# Altium integrated library Microchip PIC16 Part 1.IntLib: 1800 symbols (part 42 of 93)
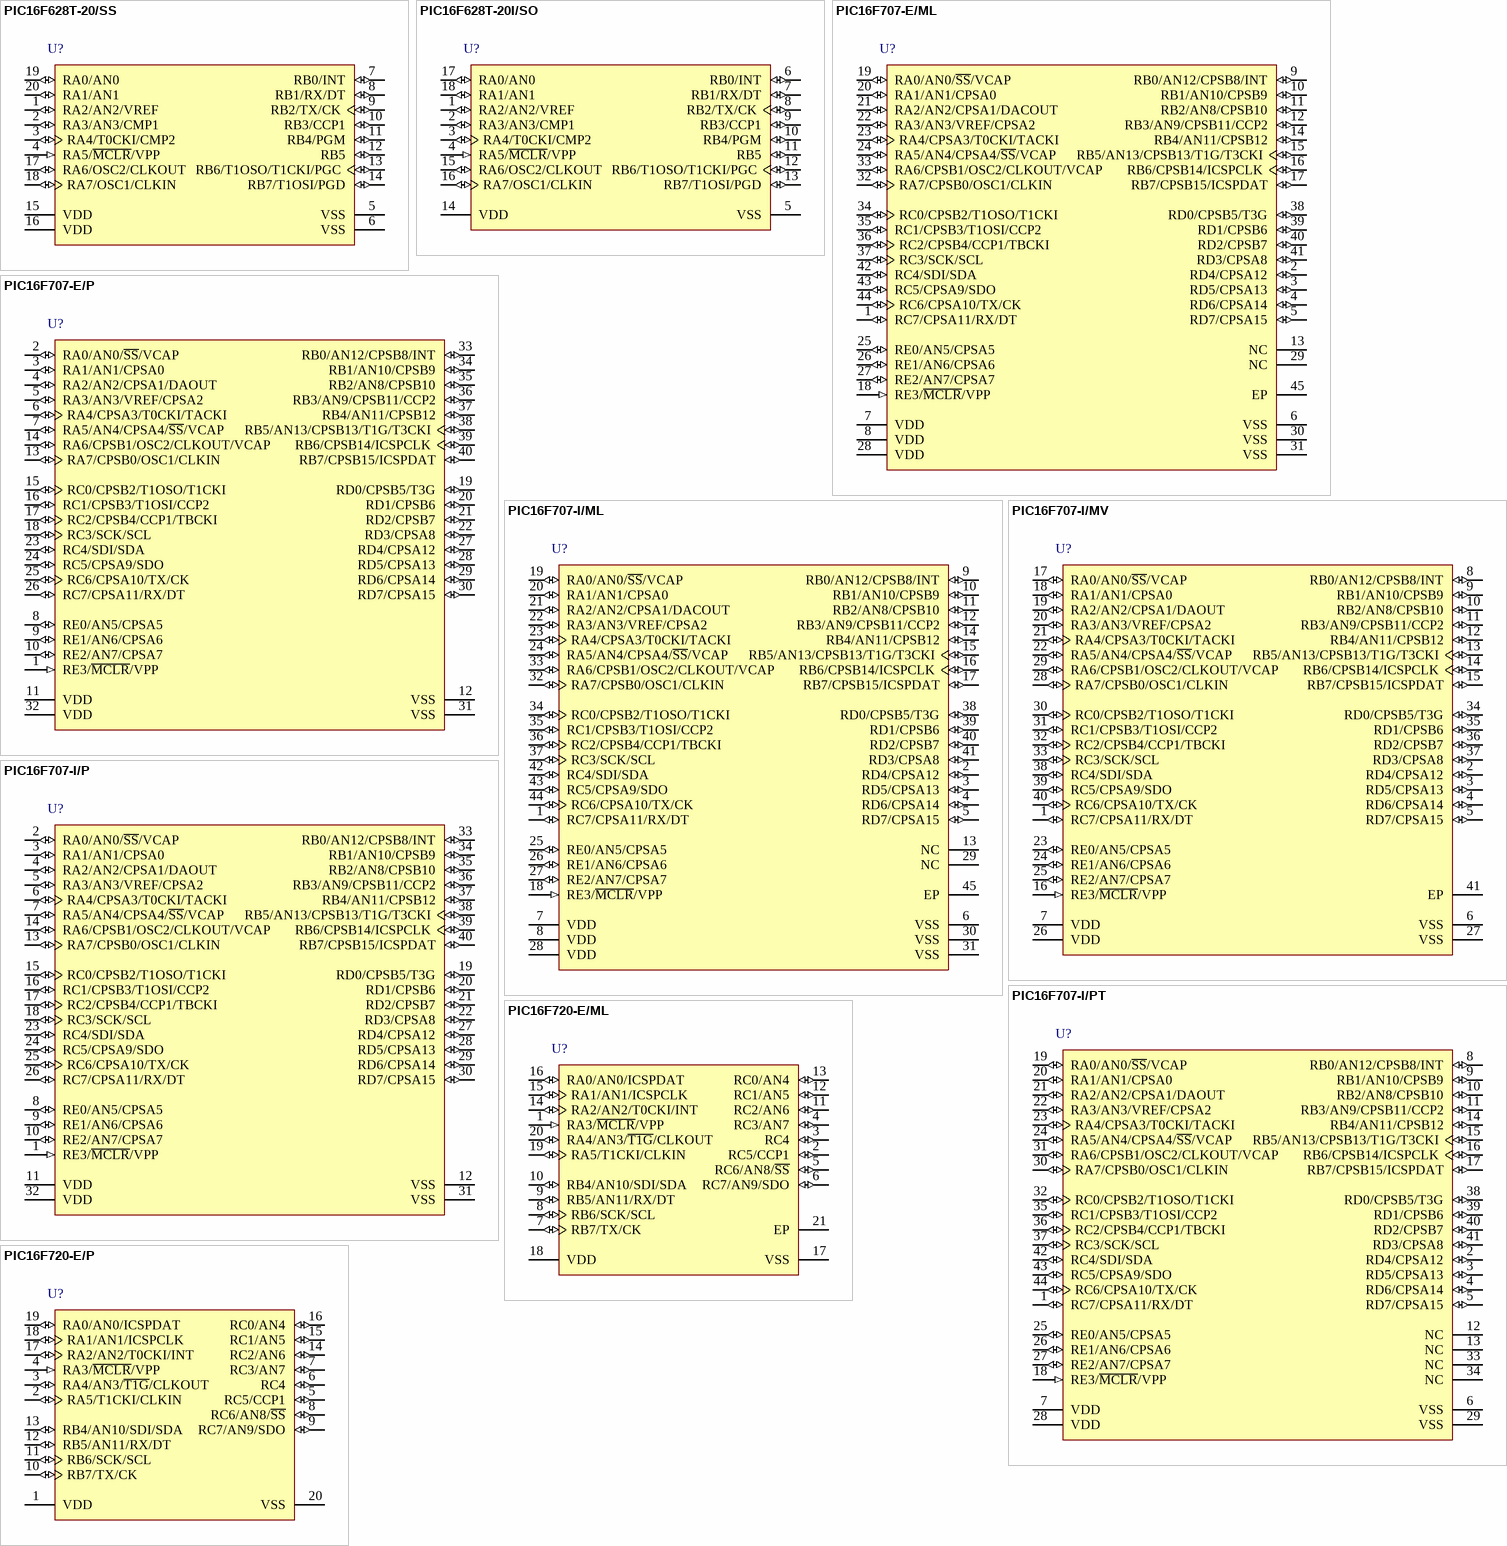
[diagram p141: symbols PIC16F628T-20/SS to PIC16F720-E/P]

## PIC16F707-E/P
designator U?
Flash Microcontroller with nanoWatt XLP and mTouch(TM) Technology, 20 MHz, 35 I/O, -40 to 125 degC, 40-pin PDIP (P40), Tube; Manufacturer: Microchip; PartNumber: PIC16F707-E/P; # of A/D Channels: 14; Digital Communication: 1 -A/E/USART, 1 -SSP(SPI/I2C); I/O Pins: 35; Internal Oscillator: 16 MHz, 500 kHz; Max. CPU Speed MHz: 20; Operation Voltage Range: 1.8V - 5.5V; Program Memory KWords: 8; RAM: 363; Timers: 4 - 8-bit, 2 - 16-bit; DatasheetVersion: Rev. B; PackageVersion: C04-016B, 04/2013; PackageReference: PDIP-P40; PackageDescription: 40-Lead Plastic Dual In-Line Package, Body 51.75 x 13.53 mm, Pitch 2.54 mm; Supplier 1: Digi-Key; Supplier Part Number 1: PIC16F707-E/P-ND; Supplier 2: Mouser; Supplier Part Number 2: 579-PIC16F707-E/P; Memory Type: Flash; Packing: TUBE; Program Memory KBytes: 14; RoHS: TRUE; Mounting Technology: Through Hole; ComponentLink1Description: Datasheet; ComponentLink1URL: http://ww1.microchip.com/downloads/en/DeviceDoc/41418B.pdf; ComponentLink2Description: Package Specification; ComponentLink2URL: http://www.microchip.com/stellent/groups/techpub_sg/documents/packagingspec/en012702.pdf; ComponentLink3Description: URL Link1; ComponentLink3URL: Product URL:http://www.microchip.com/datasheet/PIC16F707
footprint MCHP-PDIP-P40 (PDIP, 40-Leads, Body 51.75x13.53mm, Pitch 2.54mm)
pins: 1 RE3/~{MCLR}/VPP (in), 2 RA0/AN0/~{SS}/VCAP (io), 3 RA1/AN1/CPSA0 (io), 4 RA2/AN2/CPSA1/DAOUT (io), 5 RA3/AN3/VREF/CPSA2 (io), 6 RA4/CPSA3/T0CKI/TACKI (io), 7 RA5/AN4/CPSA4/~{SS}/VCAP (io), 8 RE0/AN5/CPSA5 (io), 9 RE1/AN6/CPSA6 (io), 10 RE2/AN7/CPSA7 (io), 11 VDD (power) "Positive supply.", 12 VSS (power) "Ground reference.", 13 RA7/CPSB0/OSC1/CLKIN (io), 14 RA6/CPSB1/OSC2/CLKOUT/VCAP (io), 15 RC0/CPSB2/T1OSO/T1CKI (io), 16 RC1/CPSB3/T1OSI/CCP2 (io), 17 RC2/CPSB4/CCP1/TBCKI (io), 18 RC3/SCK/SCL (io), 19 RD0/CPSB5/T3G (io), 20 RD1/CPSB6 (io), 21 RD2/CPSB7 (io), 22 RD3/CPSA8 (io), 23 RC4/SDI/SDA (io), 24 RC5/CPSA9/SDO (io), 25 RC6/CPSA10/TX/CK (io), 26 RC7/CPSA11/RX/DT (io), 27 RD4/CPSA12 (io), 28 RD5/CPSA13 (io), 29 RD6/CPSA14 (io), 30 RD7/CPSA15 (io), 31 VSS (power) "Ground reference.", 32 VDD (power) "Positive supply.", 33 RB0/AN12/CPSB8/INT (io), 34 RB1/AN10/CPSB9 (io), 35 RB2/AN8/CPSB10 (io), 36 RB3/AN9/CPSB11/CCP2 (io), 37 RB4/AN11/CPSB12 (io), 38 RB5/AN13/CPSB13/T1G/T3CKI (io), 39 RB6/CPSB14/ICSPCLK (io), 40 RB7/CPSB15/ICSPDAT (io)

## PIC16F707-I/ML
designator U?
Flash Microcontroller with nanoWatt XLP and mTouch(TM) Technology, 20 MHz, 35 I/O, -40 to 85 degC, 44-pin QFN (ML44), Tube; Manufacturer: Microchip; PartNumber: PIC16F707-I/ML; # of A/D Channels: 14; Digital Communication: 1 -A/E/USART, 1 -SSP(SPI/I2C); I/O Pins: 35; Internal Oscillator: 16 MHz, 500 kHz; Max. CPU Speed MHz: 20; Operation Voltage Range: 1.8V - 5.5V; Program Memory KWords: 8; RAM: 363; Timers: 4 - 8-bit, 2 - 16-bit; DatasheetVersion: Rev. B; PackageVersion: C04-103C, 12/2012; PackageReference: QFN-ML44; PackageDescription: 44-Lead Plastic Quad Flat, 8 x 8 mm Body, 0.65 mm Pitch; Supplier 1: Digi-Key; Supplier Part Number 1: PIC16F707-I/ML-ND; Supplier 2: Farnell; Supplier Part Number 2: 1814951; Supplier 3: Newark; Supplier Part Number 3: 63R7803; Supplier 4: Mouser; Supplier Part Number 4: 579-PIC16F707-I/ML; Memory Type: Flash; Packing: TUBE; Program Memory KBytes: 14; RoHS: TRUE; Mounting Technology: Surface Mount; ComponentLink1Description: Datasheet; ComponentLink1URL: http://ww1.microchip.com/downloads/en/DeviceDoc/41418B.pdf; ComponentLink2Description: Package Specification; ComponentLink2URL: http://www.microchip.com/stellent/groups/techpub_sg/documents/packagingspec/en012702.pdf; ComponentLink3Description: URL Link1; ComponentLink3URL: Product URL:http://www.microchip.com/datasheet/PIC16F707
footprint MCHP-QFN-ML44_N (QFN, 44-Leads, Body 8x8mm, Pitch 0.65mm, Thermal Pad 6.425x6.425mm, IPC Medium Density)
footprint MCHP-QFN-ML44_L (QFN, 44-Leads, Body 8x8mm, Pitch 0.65mm, Thermal Pad 6.425x6.425mm, IPC High Density)
footprint MCHP-QFN-ML44_M (QFN, 44-Leads, Body 8x8mm, Pitch 0.65mm, Thermal Pad 6.425x6.425mm, IPC Low Density)
pins: 1 RC7/CPSA11/RX/DT (io), 2 RD4/CPSA12 (io), 3 RD5/CPSA13 (io), 4 RD6/CPSA14 (io), 5 RD7/CPSA15 (io), 6 VSS (power) "Ground reference.", 7 VDD (power) "Positive supply.", 8 VDD (power) "Positive supply.", 9 RB0/AN12/CPSB8/INT (io), 10 RB1/AN10/CPSB9 (io), 11 RB2/AN8/CPSB10 (io), 12 RB3/AN9/CPSB11/CCP2 (io), 13 NC, 14 RB4/AN11/CPSB12 (io), 15 RB5/AN13/CPSB13/T1G/T3CKI (io), 16 RB6/CPSB14/ICSPCLK (io), 17 RB7/CPSB15/ICSPDAT (io), 18 RE3/~{MCLR}/VPP (in), 19 RA0/AN0/~{SS}/VCAP (io), 20 RA1/AN1/CPSA0 (io), 21 RA2/AN2/CPSA1/DACOUT (io), 22 RA3/AN3/VREF/CPSA2 (io), 23 RA4/CPSA3/T0CKI/TACKI (io), 24 RA5/AN4/CPSA4/~{SS}/VCAP (io), 25 RE0/AN5/CPSA5 (io), 26 RE1/AN6/CPSA6 (io), 27 RE2/AN7/CPSA7 (io), 28 VDD (power) "Positive supply.", 29 NC, 30 VSS (power) "Ground reference.", 31 VSS (power) "Ground reference.", 32 RA7/CPSB0/OSC1/CLKIN (io), 33 RA6/CPSB1/OSC2/CLKOUT/VCAP (io), 34 RC0/CPSB2/T1OSO/T1CKI (io), 35 RC1/CPSB3/T1OSI/CCP2 (io), 36 RC2/CPSB4/CCP1/TBCKI (io), 37 RC3/SCK/SCL (io), 38 RD0/CPSB5/T3G (io), 39 RD1/CPSB6 (io), 40 RD2/CPSB7 (io), 41 RD3/CPSA8 (io), 42 RC4/SDI/SDA (io), 43 RC5/CPSA9/SDO (io), 44 RC6/CPSA10/TX/CK (io), 45 EP

## PIC16F707-I/MV
designator U?
Flash Microcontroller with nanoWatt XLP and mTouch(TM) Technology, 20 MHz, 35 I/O, -40 to 85 degC, 40-pin UQFN (MV40), Tube; Manufacturer: Microchip; PartNumber: PIC16F707-I/MV; # of A/D Channels: 14; Digital Communication: 1 -A/E/USART, 1 -SSP(SPI/I2C); I/O Pins: 35; Internal Oscillator: 16 MHz, 500 kHz; Max. CPU Speed MHz: 20; Operation Voltage Range: 1.8V - 5.5V; Program Memory KWords: 8; RAM: 363; Timers: 4 - 8-bit, 2 - 16-bit; DatasheetVersion: Rev. B; PackageVersion: C04-156A, 04/2013; PackageReference: UQFN-MV40; PackageDescription: 40-Lead Plastic Ultra Thin Quad Flat, No Lead Package, Body 5 x 5 mm, Pitch 0.4 mm; Supplier 1: Digi-Key; Supplier Part Number 1: PIC16F707-I/MV-ND; Supplier 2: Mouser; Supplier Part Number 2: 579-PIC16F707IMV; Memory Type: Flash; Packing: TUBE; Program Memory KBytes: 14; RoHS: TRUE; Mounting Technology: Surface Mount; ComponentLink1Description: Datasheet; ComponentLink1URL: http://ww1.microchip.com/downloads/en/DeviceDoc/41418B.pdf; ComponentLink2Description: Package Specification; ComponentLink2URL: http://www.microchip.com/stellent/groups/techpub_sg/documents/packagingspec/en012702.pdf; ComponentLink3Description: URL Link1; ComponentLink3URL: Product URL:http://www.microchip.com/datasheet/PIC16F707
footprint MCHP-UQFN-MV40_N (QFN, 40-Leads, Body 5x5mm, Pitch 0.4mm, Thermal Pad 3.7x3.7mm, IPC Medium Density)
footprint MCHP-UQFN-MV40_L (QFN, 40-Leads, Body 5x5mm, Pitch 0.4mm, Thermal Pad 3.7x3.7mm, IPC High Density)
footprint MCHP-UQFN-MV40_M (QFN, 40-Leads, Body 5x5mm, Pitch 0.4mm, Thermal Pad 3.7x3.7mm, IPC Low Density)
pins: 1 RC7/CPSA11/RX/DT (io), 2 RD4/CPSA12 (io), 3 RD5/CPSA13 (io), 4 RD6/CPSA14 (io), 5 RD7/CPSA15 (io), 6 VSS (power) "Ground reference.", 7 VDD (power) "Positive supply.", 8 RB0/AN12/CPSB8/INT (io), 9 RB1/AN10/CPSB9 (io), 10 RB2/AN8/CPSB10 (io), 11 RB3/AN9/CPSB11/CCP2 (io), 12 RB4/AN11/CPSB12 (io), 13 RB5/AN13/CPSB13/T1G/T3CKI (io), 14 RB6/CPSB14/ICSPCLK (io), 15 RB7/CPSB15/ICSPDAT (io), 16 RE3/~{MCLR}/VPP (in), 17 RA0/AN0/~{SS}/VCAP (io), 18 RA1/AN1/CPSA0 (io), 19 RA2/AN2/CPSA1/DAOUT (io), 20 RA3/AN3/VREF/CPSA2 (io), 21 RA4/CPSA3/T0CKI/TACKI (io), 22 RA5/AN4/CPSA4/~{SS}/VCAP (io), 23 RE0/AN5/CPSA5 (io), 24 RE1/AN6/CPSA6 (io), 25 RE2/AN7/CPSA7 (io), 26 VDD (power) "Positive supply.", 27 VSS (power) "Ground reference.", 28 RA7/CPSB0/OSC1/CLKIN (io), 29 RA6/CPSB1/OSC2/CLKOUT/VCAP (io), 30 RC0/CPSB2/T1OSO/T1CKI (io), 31 RC1/CPSB3/T1OSI/CCP2 (io), 32 RC2/CPSB4/CCP1/TBCKI (io), 33 RC3/SCK/SCL (io), 34 RD0/CPSB5/T3G (io), 35 RD1/CPSB6 (io), 36 RD2/CPSB7 (io), 37 RD3/CPSA8 (io), 38 RC4/SDI/SDA (io), 39 RC5/CPSA9/SDO (io), 40 RC6/CPSA10/TX/CK (io), 41 EP

## PIC16F707-I/P
designator U?
Flash Microcontroller with nanoWatt XLP and mTouch(TM) Technology, 20 MHz, 35 I/O, -40 to 85 degC, 40-pin PDIP (P40), Tube; Manufacturer: Microchip; PartNumber: PIC16F707-I/P; # of A/D Channels: 14; Digital Communication: 1 -A/E/USART, 1 -SSP(SPI/I2C); I/O Pins: 35; Internal Oscillator: 16 MHz, 500 kHz; Max. CPU Speed MHz: 20; Operation Voltage Range: 1.8V - 5.5V; Program Memory KWords: 8; RAM: 363; Timers: 4 - 8-bit, 2 - 16-bit; DatasheetVersion: Rev. B; PackageVersion: C04-016B, 04/2013; PackageReference: PDIP-P40; PackageDescription: 40-Lead Plastic Dual In-Line Package, Body 51.75 x 13.53 mm, Pitch 2.54 mm; Supplier 1: Digi-Key; Supplier Part Number 1: PIC16F707-I/P-ND; Supplier 2: Farnell; Supplier Part Number 2: 1814952; Supplier 3: Newark; Supplier Part Number 3: 63R7804; Supplier 4: Mouser; Supplier Part Number 4: 579-PIC16F707-I/P; Memory Type: Flash; Packing: TUBE; Program Memory KBytes: 14; RoHS: TRUE; Mounting Technology: Through Hole; ComponentLink1Description: Datasheet; ComponentLink1URL: http://ww1.microchip.com/downloads/en/DeviceDoc/41418B.pdf; ComponentLink2Description: Package Specification; ComponentLink2URL: http://www.microchip.com/stellent/groups/techpub_sg/documents/packagingspec/en012702.pdf; ComponentLink3Description: URL Link1; ComponentLink3URL: Product URL:http://www.microchip.com/datasheet/PIC16F707
footprint MCHP-PDIP-P40 (PDIP, 40-Leads, Body 51.75x13.53mm, Pitch 2.54mm)
pins: 1 RE3/~{MCLR}/VPP (in), 2 RA0/AN0/~{SS}/VCAP (io), 3 RA1/AN1/CPSA0 (io), 4 RA2/AN2/CPSA1/DAOUT (io), 5 RA3/AN3/VREF/CPSA2 (io), 6 RA4/CPSA3/T0CKI/TACKI (io), 7 RA5/AN4/CPSA4/~{SS}/VCAP (io), 8 RE0/AN5/CPSA5 (io), 9 RE1/AN6/CPSA6 (io), 10 RE2/AN7/CPSA7 (io), 11 VDD (power) "Positive supply.", 12 VSS (power) "Ground reference.", 13 RA7/CPSB0/OSC1/CLKIN (io), 14 RA6/CPSB1/OSC2/CLKOUT/VCAP (io), 15 RC0/CPSB2/T1OSO/T1CKI (io), 16 RC1/CPSB3/T1OSI/CCP2 (io), 17 RC2/CPSB4/CCP1/TBCKI (io), 18 RC3/SCK/SCL (io), 19 RD0/CPSB5/T3G (io), 20 RD1/CPSB6 (io), 21 RD2/CPSB7 (io), 22 RD3/CPSA8 (io), 23 RC4/SDI/SDA (io), 24 RC5/CPSA9/SDO (io), 25 RC6/CPSA10/TX/CK (io), 26 RC7/CPSA11/RX/DT (io), 27 RD4/CPSA12 (io), 28 RD5/CPSA13 (io), 29 RD6/CPSA14 (io), 30 RD7/CPSA15 (io), 31 VSS (power) "Ground reference.", 32 VDD (power) "Positive supply.", 33 RB0/AN12/CPSB8/INT (io), 34 RB1/AN10/CPSB9 (io), 35 RB2/AN8/CPSB10 (io), 36 RB3/AN9/CPSB11/CCP2 (io), 37 RB4/AN11/CPSB12 (io), 38 RB5/AN13/CPSB13/T1G/T3CKI (io), 39 RB6/CPSB14/ICSPCLK (io), 40 RB7/CPSB15/ICSPDAT (io)

## PIC16F707-I/PT
designator U?
Flash Microcontroller with nanoWatt XLP and mTouch(TM) Technology, 20 MHz, 35 I/O, -40 to 85 degC, 44-pin TQFP (PT44), Tray; Manufacturer: Microchip; PartNumber: PIC16F707-I/PT; # of A/D Channels: 14; Digital Communication: 1 -A/E/USART, 1 -SSP(SPI/I2C); I/O Pins: 35; Internal Oscillator: 16 MHz, 500 kHz; Max. CPU Speed MHz: 20; Operation Voltage Range: 1.8V - 5.5V; Program Memory KWords: 8; RAM: 363; Timers: 4 - 8-bit, 2 - 16-bit; DatasheetVersion: Rev. B; PackageVersion: C04-076B, 12/2012; PackageReference: TQFP-PT44; PackageDescription: 44-Lead Plastic Thin Quad Flatpack, 10 x 10 mm Body, 0.8 mm Pitch; Supplier 1: Digi-Key; Supplier Part Number 1: PIC16F707-I/PT-ND; Supplier 2: Farnell; Supplier Part Number 2: 1814954MPKG; Supplier 3: Farnell; Supplier Part Number 3: 1814954; Supplier 4: Newark; Supplier Part Number 4: 63R7805; Supplier 5: Mouser; Supplier Part Number 5: 579-PIC16F707-I/PT; Memory Type: Flash; Packing: TRAY; Program Memory KBytes: 14; RoHS: TRUE; Mounting Technology: Surface Mount; ComponentLink1Description: Datasheet; ComponentLink1URL: http://ww1.microchip.com/downloads/en/DeviceDoc/41418B.pdf; ComponentLink2Description: Package Specification; ComponentLink2URL: http://www.microchip.com/stellent/groups/techpub_sg/documents/packagingspec/en012702.pdf; ComponentLink3Description: URL Link1; ComponentLink3URL: Product URL:http://www.microchip.com/datasheet/PIC16F707
footprint MCHP-TQFP-PT44_N (QFN, 44-Leads, Body 10x10mm, Pitch 0.8mm, IPC Medium Density)
footprint MCHP-TQFP-PT44_L (QFN, 44-Leads, Body 10x10mm, Pitch 0.8mm, IPC High Density)
footprint MCHP-TQFP-PT44_M (QFN, 44-Leads, Body 10x10mm, Pitch 0.8mm, IPC Low Density)
pins: 1 RC7/CPSA11/RX/DT (io), 2 RD4/CPSA12 (io), 3 RD5/CPSA13 (io), 4 RD6/CPSA14 (io), 5 RD7/CPSA15 (io), 6 VSS (power) "Ground reference.", 7 VDD (power) "Positive supply.", 8 RB0/AN12/CPSB8/INT (io), 9 RB1/AN10/CPSB9 (io), 10 RB2/AN8/CPSB10 (io), 11 RB3/AN9/CPSB11/CCP2 (io), 12 NC, 13 NC, 14 RB4/AN11/CPSB12 (io), 15 RB5/AN13/CPSB13/T1G/T3CKI (io), 16 RB6/CPSB14/ICSPCLK (io), 17 RB7/CPSB15/ICSPDAT (io), 18 RE3/~{MCLR}/VPP (in), 19 RA0/AN0/~{SS}/VCAP (io), 20 RA1/AN1/CPSA0 (io), 21 RA2/AN2/CPSA1/DAOUT (io), 22 RA3/AN3/VREF/CPSA2 (io), 23 RA4/CPSA3/T0CKI/TACKI (io), 24 RA5/AN4/CPSA4/~{SS}/VCAP (io), 25 RE0/AN5/CPSA5 (io), 26 RE1/AN6/CPSA6 (io), 27 RE2/AN7/CPSA7 (io), 28 VDD (power) "Positive supply.", 29 VSS (power) "Ground reference.", 30 RA7/CPSB0/OSC1/CLKIN (io), 31 RA6/CPSB1/OSC2/CLKOUT/VCAP (io), 32 RC0/CPSB2/T1OSO/T1CKI (io), 33 NC, 34 NC, 35 RC1/CPSB3/T1OSI/CCP2 (io), 36 RC2/CPSB4/CCP1/TBCKI (io), 37 RC3/SCK/SCL (io), 38 RD0/CPSB5/T3G (io), 39 RD1/CPSB6 (io), 40 RD2/CPSB7 (io), 41 RD3/CPSA8 (io), 42 RC4/SDI/SDA (io), 43 RC5/CPSA9/SDO (io), 44 RC6/CPSA10/TX/CK (io)

## PIC16F720-E/ML
designator U?
Flash Microcontroller, 16 MHz, 17 I/O, -40 to 125 degC, 20-pin QFN (ML20), Tube; Manufacturer: Microchip; PartNumber: PIC16F720-E/ML; # of A/D Channels: 12; Digital Communication: 1 -A/E/USART, 1 -SSP(SPI/I2C); I/O Pins: 17; Internal Oscillator: 16 MHz, 500 KHz; Max. CPU Speed MHz: 16; Operation Voltage Range: 1.8V - 5.5V; Program Memory KBytes: 3.5; Program Memory KWords: 2; RAM: 128; Timers: 2 - 8-bit, 1 - 16-bit, 0 - 32-bit; DatasheetVersion: Rev. D; PackageVersion: C04-126B, 12/2012; PackageReference: QFN-ML20; PackageDescription: 20-Lead Plastic Quad Flat, No Lead Package, 4 x 4 mm Body, 0.5 mm Pitch; Supplier 1: Digi-Key; Supplier Part Number 1: PIC16F720-E/ML-ND; Supplier 2: Newark; Supplier Part Number 2: 73R8395; Supplier 3: Mouser; Supplier Part Number 3: 579-PIC16F720-E/ML; Memory Type: Flash; Packing: TUBE; RoHS: TRUE; Mounting Technology: Surface Mount; ComponentLink1Description: Datasheet; ComponentLink1URL: http://ww1.microchip.com/downloads/en/DeviceDoc/41430D.pdf; ComponentLink2Description: Package Specification; ComponentLink2URL: http://www.microchip.com/stellent/groups/techpub_sg/documents/packagingspec/en012702.pdf; ComponentLink3Description: URL Link1; ComponentLink3URL: Product URL:http://www.microchip.com/datasheet/PIC16F720
footprint MCHP-QFN-ML20_N (QFN, 20-Leads, Body 4x4mm, Pitch 0.5mm, Thermal Pad 2.7x2.7mm, IPC Medium Density)
footprint MCHP-QFN-ML20_L (QFN, 20-Leads, Body 4x4mm, Pitch 0.5mm, Thermal Pad 2.7x2.7mm, IPC High Density)
footprint MCHP-QFN-ML20_M (QFN, 20-Leads, Body 4x4mm, Pitch 0.5mm, Thermal Pad 2.7x2.7mm, IPC Low Density)
pins: 1 RA3/~{MCLR}/VPP (in), 2 RC5/CCP1 (io), 3 RC4 (io) "General purpose I/O.", 4 RC3/AN7 (io), 5 RC6/AN8/~{SS} (io), 6 RC7/AN9/SDO (io), 7 RB7/TX/CK (io), 8 RB6/SCK/SCL (io), 9 RB5/AN11/RX/DT (io), 10 RB4/AN10/SDI/SDA (io), 11 RC2/AN6 (io), 12 RC1/AN5 (io), 13 RC0/AN4 (io), 14 RA2/AN2/T0CKI/INT (io), 15 RA1/AN1/ICSPCLK (io), 16 RA0/AN0/ICSPDAT (io), 17 VSS (power) "Ground supply", 18 VDD (power) "Positive supply", 19 RA5/T1CKI/CLKIN (io), 20 RA4/AN3/~{T1G}/CLKOUT (io), 21 EP

## PIC16F720-E/P
designator U?
Flash Microcontroller, 16 MHz, 17 I/O, -40 to 125 degC, 20-pin PDIP (P20), Tube; Manufacturer: Microchip; PartNumber: PIC16F720-E/P; # of A/D Channels: 12; Digital Communication: 1 -A/E/USART, 1 -SSP(SPI/I2C); I/O Pins: 17; Internal Oscillator: 16 MHz, 500 kHz; Max. CPU Speed MHz: 16; Operation Voltage Range: 1.8V - 5.5V; Program Memory KBytes: 3.5; Program Memory KWords: 2; RAM: 128; Timers: 2 - 8-bit, 1 - 16-bit, 0 - 32-bit; DatasheetVersion: Rev. D; PackageVersion: C04-019B, 12/2012; PackageReference: PDIP-P20; PackageDescription: 20-Lead Plastic Dual In-Line, Row Spacing 7.62 mm, 25.91 x 6.6 mm Body, 2.54 mm Pitch; Supplier 1: Digi-Key; Supplier Part Number 1: PIC16F720-E/P-ND; Supplier 2: Newark; Supplier Part Number 2: 73R8396; Supplier 3: Mouser; Supplier Part Number 3: 579-PIC16F720-E/P; Memory Type: Flash; Packing: TUBE; RoHS: TRUE; Mounting Technology: Through Hole; ComponentLink1Description: Datasheet; ComponentLink1URL: http://ww1.microchip.com/downloads/en/DeviceDoc/41430D.pdf; ComponentLink2Description: Package Specification; ComponentLink2URL: http://www.microchip.com/stellent/groups/techpub_sg/documents/packagingspec/en012702.pdf; ComponentLink3Description: URL Link1; ComponentLink3URL: Product URL:http://www.microchip.com/datasheet/PIC16F720
footprint MCHP-PDIP-P20 (DIP, 20-Leads, Body 25.91x6.6mm, Pitch 2.54mm)
pins: 1 VDD (power) "Positive supply.", 2 RA5/T1CKI/CLKIN (io), 3 RA4/AN3/~{T1G}/CLKOUT (io), 4 RA3/~{MCLR}/VPP (in), 5 RC5/CCP1 (io), 6 RC4 (io) "General purpose I/O.", 7 RC3/AN7 (io), 8 RC6/AN8/~{SS} (io), 9 RC7/AN9/SDO (io), 10 RB7/TX/CK (io), 11 RB6/SCK/SCL (io), 12 RB5/AN11/RX/DT (io), 13 RB4/AN10/SDI/SDA (io), 14 RC2/AN6 (io), 15 RC1/AN5 (io), 16 RC0/AN4 (io), 17 RA2/AN2/T0CKI/INT (io), 18 RA1/AN1/ICSPCLK (io), 19 RA0/AN0/ICSPDAT (io), 20 VSS (power) "Ground supply."

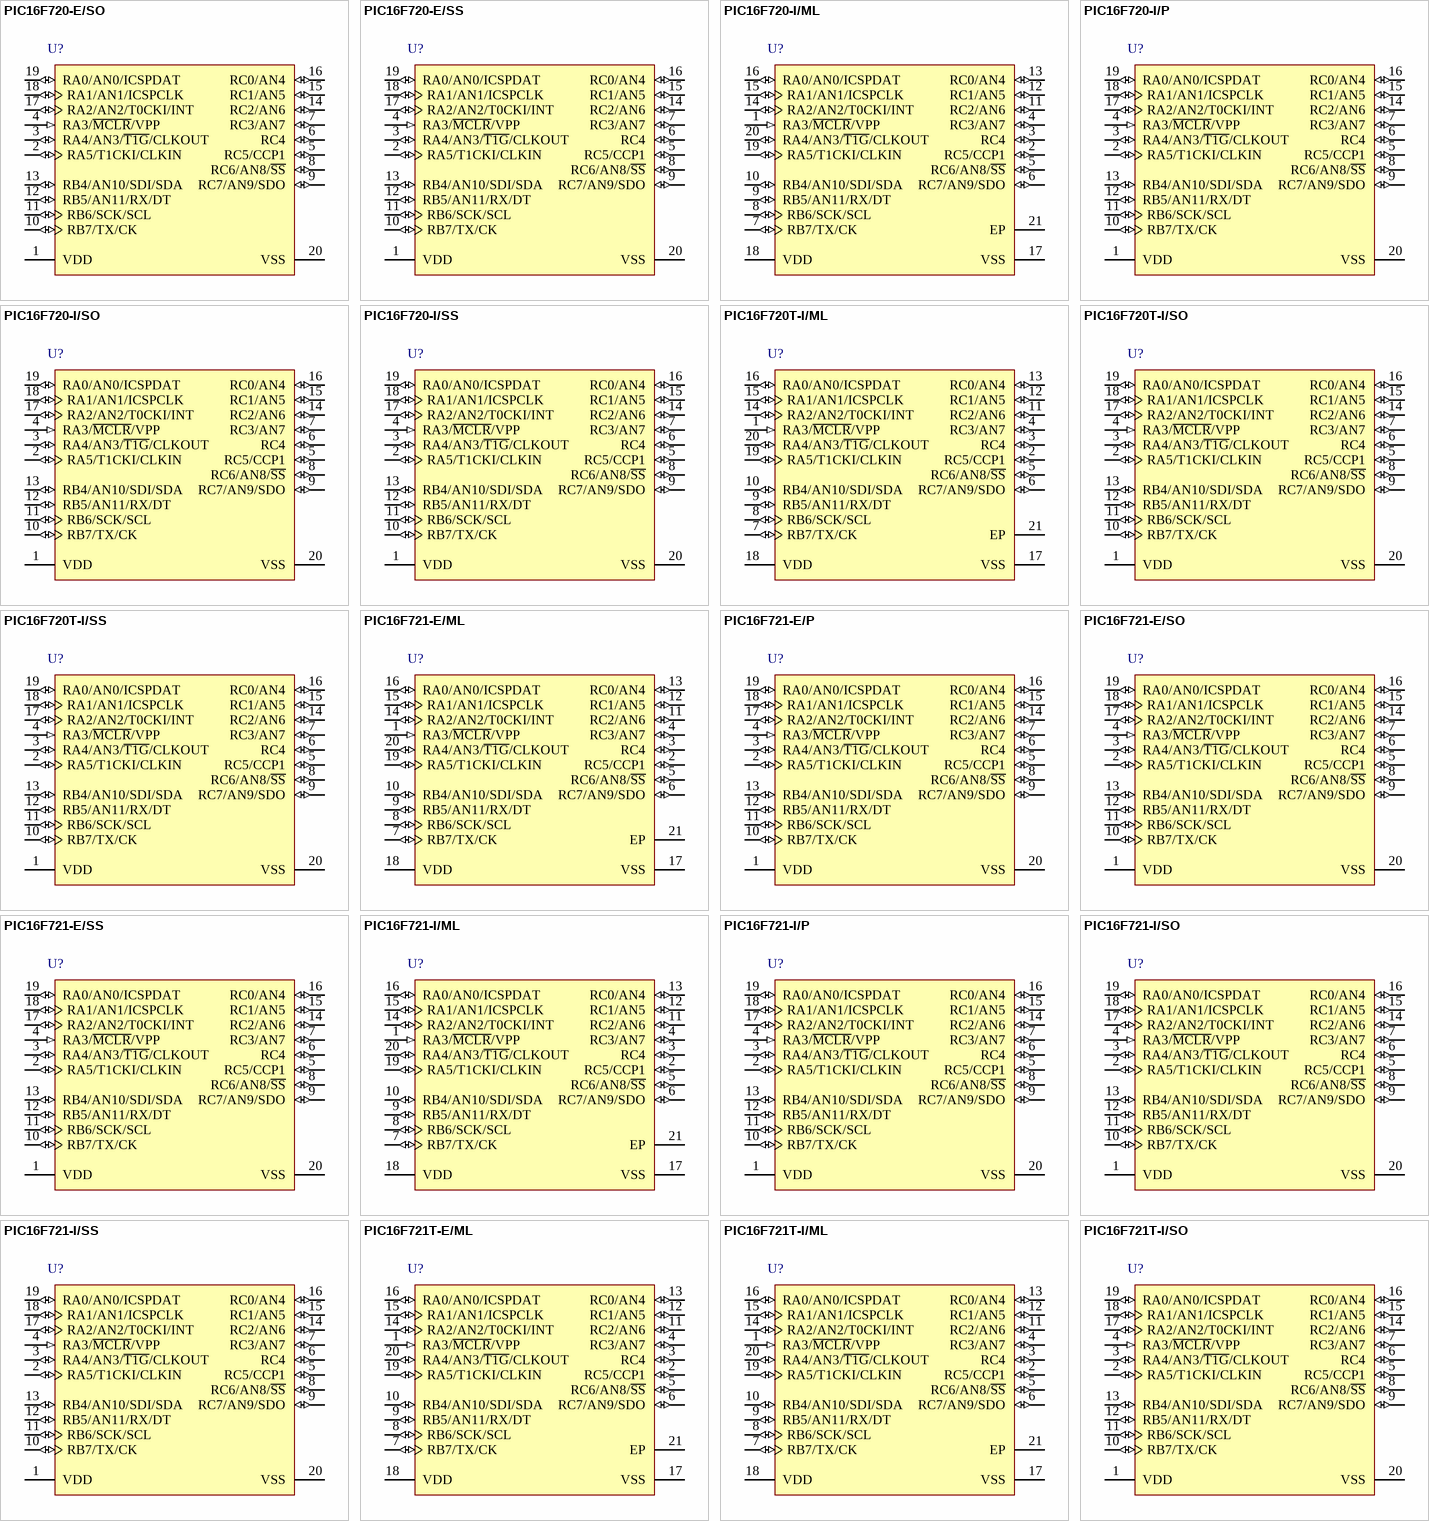
[diagram p38: symbols PIC16F720-E/SO to PIC16F721T-I/SO]

## PIC16F720-E/SO
designator U?
Flash Microcontroller, 16 MHz, 17 I/O, -40 to 125 degC, 20-pin SOIC (SO20), Tube; Manufacturer: Microchip; PartNumber: PIC16F720-E/SO; # of A/D Channels: 12; Digital Communication: 1 -A/E/USART, 1 -SSP(SPI/I2C); I/O Pins: 17; Internal Oscillator: 16 MHz, 500 KHz; Max. CPU Speed MHz: 16; Operation Voltage Range: 1.8V - 5.5V; Program Memory KBytes: 3.5; Program Memory KWords: 2; RAM: 128; Timers: 2 - 8-bit, 1 - 16-bit, 0 - 32-bit; DatasheetVersion: Rev. D; PackageVersion: C04-094C, 12/2012; PackageReference: SOIC-SO20; PackageDescription: 20-Lead Plastic Small Outline, 7.5 x 12.8 mm Body, 1.27 mm Pitch; Supplier 1: Digi-Key; Supplier Part Number 1: PIC16F720-E/SO-ND; Supplier 2: Newark; Supplier Part Number 2: 73R8397; Supplier 3: Mouser; Supplier Part Number 3: 579-PIC16F720-E/SO; Memory Type: Flash; Packing: TUBE; RoHS: TRUE; Mounting Technology: Surface Mount; ComponentLink1Description: Datasheet; ComponentLink1URL: http://ww1.microchip.com/downloads/en/DeviceDoc/41430D.pdf; ComponentLink2Description: Package Specification; ComponentLink2URL: http://www.microchip.com/stellent/groups/techpub_sg/documents/packagingspec/en012702.pdf; ComponentLink3Description: URL Link1; ComponentLink3URL: Product URL:http://www.microchip.com/datasheet/PIC16F720
footprint MCHP-SOIC-SO20_N (SOIC, 20-Leads, Body 12.8x7.5mm, Pitch 1.27mm, IPC Medium Density)
footprint MCHP-SOIC-SO20_L (SOIC, 20-Leads, Body 12.8x7.5mm, Pitch 1.27mm, IPC High Density)
footprint MCHP-SOIC-SO20_M (SOIC, 20-Leads, Body 12.8x7.5mm, Pitch 1.27mm, IPC Low Density)
pins: 1 VDD (power) "Positive supply.", 2 RA5/T1CKI/CLKIN (io), 3 RA4/AN3/~{T1G}/CLKOUT (io), 4 RA3/~{MCLR}/VPP (in), 5 RC5/CCP1 (io), 6 RC4 (io) "General purpose I/O.", 7 RC3/AN7 (io), 8 RC6/AN8/~{SS} (io), 9 RC7/AN9/SDO (io), 10 RB7/TX/CK (io), 11 RB6/SCK/SCL (io), 12 RB5/AN11/RX/DT (io), 13 RB4/AN10/SDI/SDA (io), 14 RC2/AN6 (io), 15 RC1/AN5 (io), 16 RC0/AN4 (io), 17 RA2/AN2/T0CKI/INT (io), 18 RA1/AN1/ICSPCLK (io), 19 RA0/AN0/ICSPDAT (io), 20 VSS (power) "Ground supply."

## PIC16F720-E/SS
designator U?
Flash Microcontroller, 16 MHz, 17 I/O, -40 to 125 degC, 20-pin SSOP (SS20), Tube; Manufacturer: Microchip; PartNumber: PIC16F720-E/SS; # of A/D Channels: 12; Digital Communication: 1 -A/E/USART, 1 -SSP(SPI/I2C); I/O Pins: 17; Internal Oscillator: 16 MHz, 500 KHz; Max. CPU Speed MHz: 16; Operation Voltage Range: 1.8V - 5.5V; Program Memory KBytes: 3.5; Program Memory KWords: 2; RAM: 128; Timers: 2 - 8-bit, 1 - 16-bit, 0 - 32-bit; DatasheetVersion: Rev. D; PackageVersion: C04-072B, 12/2012; PackageReference: SSOP-SS20; PackageDescription: 20-Lead Plastic Shrink Small Outline, 5.3 x 7.2 mm Body, 0.65 mm Pitch; Supplier 1: Digi-Key; Supplier Part Number 1: PIC16F720-E/SS-ND; Supplier 2: Newark; Supplier Part Number 2: 73R8398; Supplier 3: Mouser; Supplier Part Number 3: 579-PIC16F720-E/SS; Memory Type: Flash; Packing: TUBE; RoHS: TRUE; Mounting Technology: Surface Mount; ComponentLink1Description: Datasheet; ComponentLink1URL: http://ww1.microchip.com/downloads/en/DeviceDoc/41430D.pdf; ComponentLink2Description: Package Specification; ComponentLink2URL: http://www.microchip.com/stellent/groups/techpub_sg/documents/packagingspec/en012702.pdf; ComponentLink3Description: URL Link1; ComponentLink3URL: Product URL:http://www.microchip.com/datasheet/PIC16F720
footprint MCHP-SSOP-SS20_N (SOP, 20-Leads, Body 7.2x5.3mm, Pitch 0.65mm, IPC Medium Density)
footprint MCHP-SSOP-SS20_L (SOP, 20-Leads, Body 7.2x5.3mm, Pitch 0.65mm, IPC High Density)
footprint MCHP-SSOP-SS20_M (SOP, 20-Leads, Body 7.2x5.3mm, Pitch 0.65mm, IPC Low Density)
pins: 1 VDD (power) "Positive supply.", 2 RA5/T1CKI/CLKIN (io), 3 RA4/AN3/~{T1G}/CLKOUT (io), 4 RA3/~{MCLR}/VPP (in), 5 RC5/CCP1 (io), 6 RC4 (io) "General purpose I/O.", 7 RC3/AN7 (io), 8 RC6/AN8/~{SS} (io), 9 RC7/AN9/SDO (io), 10 RB7/TX/CK (io), 11 RB6/SCK/SCL (io), 12 RB5/AN11/RX/DT (io), 13 RB4/AN10/SDI/SDA (io), 14 RC2/AN6 (io), 15 RC1/AN5 (io), 16 RC0/AN4 (io), 17 RA2/AN2/T0CKI/INT (io), 18 RA1/AN1/ICSPCLK (io), 19 RA0/AN0/ICSPDAT (io), 20 VSS (power) "Ground supply."

## PIC16F720-I/ML
designator U?
Flash Microcontroller, 16 MHz, 17 I/O, -40 to 85 degC, 20-pin QFN (ML20), Tube; Manufacturer: Microchip; PartNumber: PIC16F720-I/ML; # of A/D Channels: 12; Digital Communication: 1 -A/E/USART, 1 -SSP(SPI/I2C); I/O Pins: 17; Internal Oscillator: 16 MHz, 500 KHz; Max. CPU Speed MHz: 16; Operation Voltage Range: 1.8V - 5.5V; Program Memory KBytes: 3.5; Program Memory KWords: 2; RAM: 128; Timers: 2 - 8-bit, 1 - 16-bit, 0 - 32-bit; DatasheetVersion: Rev. D; PackageVersion: C04-126B, 12/2012; PackageReference: QFN-ML20; PackageDescription: 20-Lead Plastic Quad Flat, No Lead Package, 4 x 4 mm Body, 0.5 mm Pitch; Supplier 1: Digi-Key; Supplier Part Number 1: PIC16F720-I/ML-ND; Supplier 2: Farnell; Supplier Part Number 2: 2318393; Supplier 3: Newark; Supplier Part Number 3: 73R8399; Supplier 4: Mouser; Supplier Part Number 4: 579-PIC16F720-I/ML; Memory Type: Flash; Packing: TUBE; RoHS: TRUE; Mounting Technology: Surface Mount; ComponentLink1Description: Datasheet; ComponentLink1URL: http://ww1.microchip.com/downloads/en/DeviceDoc/41430D.pdf; ComponentLink2Description: Package Specification; ComponentLink2URL: http://www.microchip.com/stellent/groups/techpub_sg/documents/packagingspec/en012702.pdf; ComponentLink3Description: URL Link1; ComponentLink3URL: Product URL:http://www.microchip.com/datasheet/PIC16F720
footprint MCHP-QFN-ML20_N (QFN, 20-Leads, Body 4x4mm, Pitch 0.5mm, Thermal Pad 2.7x2.7mm, IPC Medium Density)
footprint MCHP-QFN-ML20_L (QFN, 20-Leads, Body 4x4mm, Pitch 0.5mm, Thermal Pad 2.7x2.7mm, IPC High Density)
footprint MCHP-QFN-ML20_M (QFN, 20-Leads, Body 4x4mm, Pitch 0.5mm, Thermal Pad 2.7x2.7mm, IPC Low Density)
pins: 1 RA3/~{MCLR}/VPP (in), 2 RC5/CCP1 (io), 3 RC4 (io) "General purpose I/O.", 4 RC3/AN7 (io), 5 RC6/AN8/~{SS} (io), 6 RC7/AN9/SDO (io), 7 RB7/TX/CK (io), 8 RB6/SCK/SCL (io), 9 RB5/AN11/RX/DT (io), 10 RB4/AN10/SDI/SDA (io), 11 RC2/AN6 (io), 12 RC1/AN5 (io), 13 RC0/AN4 (io), 14 RA2/AN2/T0CKI/INT (io), 15 RA1/AN1/ICSPCLK (io), 16 RA0/AN0/ICSPDAT (io), 17 VSS (power) "Ground supply", 18 VDD (power) "Positive supply", 19 RA5/T1CKI/CLKIN (io), 20 RA4/AN3/~{T1G}/CLKOUT (io), 21 EP

## PIC16F720-I/P
designator U?
Flash Microcontroller, 16 MHz, 17 I/O, -40 to 85 degC, 20-pin PDIP (P20), Tube; Manufacturer: Microchip; PartNumber: PIC16F720-I/P; # of A/D Channels: 12; Digital Communication: 1 -A/E/USART, 1 -SSP(SPI/I2C); I/O Pins: 17; Internal Oscillator: 16 MHz, 500 KHz; Max. CPU Speed MHz: 16; Operation Voltage Range: 1.8V - 5.5V; Program Memory KBytes: 3.5; Program Memory KWords: 2; RAM: 128; Timers: 2 - 8-bit, 1 - 16-bit, 0 - 32-bit; DatasheetVersion: Rev. D; PackageVersion: C04-019B, 12/2012; PackageReference: PDIP-P20; PackageDescription: 20-Lead Plastic Dual In-Line, Row Spacing 7.62 mm, 25.91 x 6.6 mm Body, 2.54 mm Pitch; Supplier 1: Digi-Key; Supplier Part Number 1: PIC16F720-I/P-ND; Supplier 2: Newark; Supplier Part Number 2: 73R8400; Supplier 3: Mouser; Supplier Part Number 3: 579-PIC16F720-I/P; Memory Type: Flash; Packing: TUBE; RoHS: TRUE; Mounting Technology: Through Hole; ComponentLink1Description: Datasheet; ComponentLink1URL: http://ww1.microchip.com/downloads/en/DeviceDoc/41430D.pdf; ComponentLink2Description: Package Specification; ComponentLink2URL: http://www.microchip.com/stellent/groups/techpub_sg/documents/packagingspec/en012702.pdf; ComponentLink3Description: URL Link1; ComponentLink3URL: Product URL:http://www.microchip.com/datasheet/PIC16F720
footprint MCHP-PDIP-P20 (DIP, 20-Leads, Body 25.91x6.6mm, Pitch 2.54mm)
pins: 1 VDD (power) "Positive supply.", 2 RA5/T1CKI/CLKIN (io), 3 RA4/AN3/~{T1G}/CLKOUT (io), 4 RA3/~{MCLR}/VPP (in), 5 RC5/CCP1 (io), 6 RC4 (io) "General purpose I/O.", 7 RC3/AN7 (io), 8 RC6/AN8/~{SS} (io), 9 RC7/AN9/SDO (io), 10 RB7/TX/CK (io), 11 RB6/SCK/SCL (io), 12 RB5/AN11/RX/DT (io), 13 RB4/AN10/SDI/SDA (io), 14 RC2/AN6 (io), 15 RC1/AN5 (io), 16 RC0/AN4 (io), 17 RA2/AN2/T0CKI/INT (io), 18 RA1/AN1/ICSPCLK (io), 19 RA0/AN0/ICSPDAT (io), 20 VSS (power) "Ground supply."

## PIC16F720-I/SO
designator U?
Flash Microcontroller, 16 MHz, 17 I/O, -40 to 85 degC, 20-pin SOIC (SO20), Tube; Manufacturer: Microchip; PartNumber: PIC16F720-I/SO; # of A/D Channels: 12; Digital Communication: 1 -A/E/USART, 1 -SSP(SPI/I2C); I/O Pins: 17; Internal Oscillator: 16 MHz, 500 KHz; Max. CPU Speed MHz: 16; Operation Voltage Range: 1.8V - 5.5V; Program Memory KBytes: 3.5; Program Memory KWords: 2; RAM: 128; Timers: 2 - 8-bit, 1 - 16-bit, 0 - 32-bit; DatasheetVersion: Rev. D; PackageVersion: C04-094C, 12/2012; PackageReference: SOIC-SO20; PackageDescription: 20-Lead Plastic Small Outline, 7.5 x 12.8 mm Body, 1.27 mm Pitch; Supplier 1: Digi-Key; Supplier Part Number 1: PIC16F720-I/SO-ND; Supplier 2: Newark; Supplier Part Number 2: 73R8401; Supplier 3: Mouser; Supplier Part Number 3: 579-PIC16F720-I/SO; Memory Type: Flash; Packing: TUBE; RoHS: TRUE; Mounting Technology: Surface Mount; ComponentLink1Description: Datasheet; ComponentLink1URL: http://ww1.microchip.com/downloads/en/DeviceDoc/41430D.pdf; ComponentLink2Description: Package Specification; ComponentLink2URL: http://www.microchip.com/stellent/groups/techpub_sg/documents/packagingspec/en012702.pdf; ComponentLink3Description: URL Link1; ComponentLink3URL: Product URL:http://www.microchip.com/datasheet/PIC16F720
footprint MCHP-SOIC-SO20_N (SOIC, 20-Leads, Body 12.8x7.5mm, Pitch 1.27mm, IPC Medium Density)
footprint MCHP-SOIC-SO20_L (SOIC, 20-Leads, Body 12.8x7.5mm, Pitch 1.27mm, IPC High Density)
footprint MCHP-SOIC-SO20_M (SOIC, 20-Leads, Body 12.8x7.5mm, Pitch 1.27mm, IPC Low Density)
pins: 1 VDD (power) "Positive supply.", 2 RA5/T1CKI/CLKIN (io), 3 RA4/AN3/~{T1G}/CLKOUT (io), 4 RA3/~{MCLR}/VPP (in), 5 RC5/CCP1 (io), 6 RC4 (io) "General purpose I/O.", 7 RC3/AN7 (io), 8 RC6/AN8/~{SS} (io), 9 RC7/AN9/SDO (io), 10 RB7/TX/CK (io), 11 RB6/SCK/SCL (io), 12 RB5/AN11/RX/DT (io), 13 RB4/AN10/SDI/SDA (io), 14 RC2/AN6 (io), 15 RC1/AN5 (io), 16 RC0/AN4 (io), 17 RA2/AN2/T0CKI/INT (io), 18 RA1/AN1/ICSPCLK (io), 19 RA0/AN0/ICSPDAT (io), 20 VSS (power) "Ground supply."

## PIC16F720-I/SS
designator U?
Flash Microcontroller, 16 MHz, 17 I/O, -40 to 85 degC, 20-pin SSOP (SS20), Tube; Manufacturer: Microchip; PartNumber: PIC16F720-I/SS; # of A/D Channels: 12; Digital Communication: 1 -A/E/USART, 1 -SSP(SPI/I2C); I/O Pins: 17; Internal Oscillator: 16 MHz, 500 KHz; Max. CPU Speed MHz: 16; Operation Voltage Range: 1.8V - 5.5V; Program Memory KBytes: 3.5; Program Memory KWords: 2; RAM: 128; Timers: 2 - 8-bit, 1 - 16-bit, 0 - 32-bit; DatasheetVersion: Rev. D; PackageVersion: C04-072B, 12/2012; PackageReference: SSOP-SS20; PackageDescription: 20-Lead Plastic Shrink Small Outline, 5.3 x 7.2 mm Body, 0.65 mm Pitch; Supplier 1: Digi-Key; Supplier Part Number 1: PIC16F720-I/SS-ND; Supplier 2: Farnell; Supplier Part Number 2: 2318394; Supplier 3: Newark; Supplier Part Number 3: 73R8402; Supplier 4: Mouser; Supplier Part Number 4: 579-PIC16F720-I/SS; Memory Type: Flash; Packing: TUBE; RoHS: TRUE; Mounting Technology: Surface Mount; ComponentLink1Description: Datasheet; ComponentLink1URL: http://ww1.microchip.com/downloads/en/DeviceDoc/41430D.pdf; ComponentLink2Description: Package Specification; ComponentLink2URL: http://www.microchip.com/stellent/groups/techpub_sg/documents/packagingspec/en012702.pdf; ComponentLink3Description: URL Link1; ComponentLink3URL: Product URL:http://www.microchip.com/datasheet/PIC16F720
footprint MCHP-SSOP-SS20_N (SOP, 20-Leads, Body 7.2x5.3mm, Pitch 0.65mm, IPC Medium Density)
footprint MCHP-SSOP-SS20_L (SOP, 20-Leads, Body 7.2x5.3mm, Pitch 0.65mm, IPC High Density)
footprint MCHP-SSOP-SS20_M (SOP, 20-Leads, Body 7.2x5.3mm, Pitch 0.65mm, IPC Low Density)
pins: 1 VDD (power) "Positive supply.", 2 RA5/T1CKI/CLKIN (io), 3 RA4/AN3/~{T1G}/CLKOUT (io), 4 RA3/~{MCLR}/VPP (in), 5 RC5/CCP1 (io), 6 RC4 (io) "General purpose I/O.", 7 RC3/AN7 (io), 8 RC6/AN8/~{SS} (io), 9 RC7/AN9/SDO (io), 10 RB7/TX/CK (io), 11 RB6/SCK/SCL (io), 12 RB5/AN11/RX/DT (io), 13 RB4/AN10/SDI/SDA (io), 14 RC2/AN6 (io), 15 RC1/AN5 (io), 16 RC0/AN4 (io), 17 RA2/AN2/T0CKI/INT (io), 18 RA1/AN1/ICSPCLK (io), 19 RA0/AN0/ICSPDAT (io), 20 VSS (power) "Ground supply."

## PIC16F720T-I/ML
designator U?
Flash Microcontroller, 16 MHz, 17 I/O, -40 to 85 degC, 20-pin QFN (ML20), Tape and Reel; Manufacturer: Microchip; PartNumber: PIC16F720T-I/ML; # of A/D Channels: 12; Digital Communication: 1 -A/E/USART, 1 -SSP(SPI/I2C); I/O Pins: 17; Internal Oscillator: 16 MHz, 500 KHz; Max. CPU Speed MHz: 16; Operation Voltage Range: 1.8V - 5.5V; Packing: T/R; Program Memory KBytes: 3.5; Program Memory KWords: 2; RAM: 128; Timers: 2 - 8-bit, 1 - 16-bit, 0 - 32-bit; DatasheetVersion: Rev. D; PackageVersion: C04-126B, 12/2012; PackageReference: QFN-ML20; PackageDescription: 20-Lead Plastic Quad Flat, No Lead Package, 4 x 4 mm Body, 0.5 mm Pitch; Supplier 1: Digi-Key; Supplier Part Number 1: PIC16F720T-I/ML-ND; Supplier 2: Mouser; Supplier Part Number 2: 579-PIC16F720T-I/ML; Memory Type: Flash; RoHS: TRUE; Mounting Technology: Surface Mount; ComponentLink1Description: Datasheet; ComponentLink1URL: http://ww1.microchip.com/downloads/en/DeviceDoc/41430D.pdf; ComponentLink2Description: Package Specification; ComponentLink2URL: http://www.microchip.com/stellent/groups/techpub_sg/documents/packagingspec/en012702.pdf; ComponentLink3Description: URL Link1; ComponentLink3URL: Product URL:http://www.microchip.com/datasheet/PIC16F720
footprint MCHP-QFN-ML20_N (QFN, 20-Leads, Body 4x4mm, Pitch 0.5mm, Thermal Pad 2.7x2.7mm, IPC Medium Density)
footprint MCHP-QFN-ML20_L (QFN, 20-Leads, Body 4x4mm, Pitch 0.5mm, Thermal Pad 2.7x2.7mm, IPC High Density)
footprint MCHP-QFN-ML20_M (QFN, 20-Leads, Body 4x4mm, Pitch 0.5mm, Thermal Pad 2.7x2.7mm, IPC Low Density)
pins: 1 RA3/~{MCLR}/VPP (in), 2 RC5/CCP1 (io), 3 RC4 (io) "General purpose I/O.", 4 RC3/AN7 (io), 5 RC6/AN8/~{SS} (io), 6 RC7/AN9/SDO (io), 7 RB7/TX/CK (io), 8 RB6/SCK/SCL (io), 9 RB5/AN11/RX/DT (io), 10 RB4/AN10/SDI/SDA (io), 11 RC2/AN6 (io), 12 RC1/AN5 (io), 13 RC0/AN4 (io), 14 RA2/AN2/T0CKI/INT (io), 15 RA1/AN1/ICSPCLK (io), 16 RA0/AN0/ICSPDAT (io), 17 VSS (power) "Ground supply", 18 VDD (power) "Positive supply", 19 RA5/T1CKI/CLKIN (io), 20 RA4/AN3/~{T1G}/CLKOUT (io), 21 EP

## PIC16F720T-I/SO
designator U?
Flash Microcontroller, 16 MHz, 17 I/O, -40 to 85 degC, 20-pin SOIC (SO20), Tape and Reel; Manufacturer: Microchip; PartNumber: PIC16F720T-I/SO; # of A/D Channels: 12; Digital Communication: 1 -A/E/USART, 1 -SSP(SPI/I2C); I/O Pins: 17; Internal Oscillator: 16 MHz, 500 KHz; Max. CPU Speed MHz: 16; Operation Voltage Range: 1.8V - 5.5V; Packing: T/R; Program Memory KBytes: 3.5; Program Memory KWords: 2; RAM: 128; Timers: 2 - 8-bit, 1 - 16-bit, 0 - 32-bit; DatasheetVersion: Rev. D; PackageVersion: C04-094C, 12/2012; PackageReference: SOIC-SO20; PackageDescription: 20-Lead Plastic Small Outline, 7.5 x 12.8 mm Body, 1.27 mm Pitch; Supplier 1: Digi-Key; Supplier Part Number 1: PIC16F720T-I/SO-ND; Supplier 2: Mouser; Supplier Part Number 2: 579-PIC16F720T-I/SO; Memory Type: Flash; RoHS: TRUE; Mounting Technology: Surface Mount; ComponentLink1Description: Datasheet; ComponentLink1URL: http://ww1.microchip.com/downloads/en/DeviceDoc/41430D.pdf; ComponentLink2Description: Package Specification; ComponentLink2URL: http://www.microchip.com/stellent/groups/techpub_sg/documents/packagingspec/en012702.pdf; ComponentLink3Description: URL Link1; ComponentLink3URL: Product URL:http://www.microchip.com/datasheet/PIC16F720
footprint MCHP-SOIC-SO20_N (SOIC, 20-Leads, Body 12.8x7.5mm, Pitch 1.27mm, IPC Medium Density)
footprint MCHP-SOIC-SO20_L (SOIC, 20-Leads, Body 12.8x7.5mm, Pitch 1.27mm, IPC High Density)
footprint MCHP-SOIC-SO20_M (SOIC, 20-Leads, Body 12.8x7.5mm, Pitch 1.27mm, IPC Low Density)
pins: 1 VDD (power) "Positive supply.", 2 RA5/T1CKI/CLKIN (io), 3 RA4/AN3/~{T1G}/CLKOUT (io), 4 RA3/~{MCLR}/VPP (in), 5 RC5/CCP1 (io), 6 RC4 (io) "General purpose I/O.", 7 RC3/AN7 (io), 8 RC6/AN8/~{SS} (io), 9 RC7/AN9/SDO (io), 10 RB7/TX/CK (io), 11 RB6/SCK/SCL (io), 12 RB5/AN11/RX/DT (io), 13 RB4/AN10/SDI/SDA (io), 14 RC2/AN6 (io), 15 RC1/AN5 (io), 16 RC0/AN4 (io), 17 RA2/AN2/T0CKI/INT (io), 18 RA1/AN1/ICSPCLK (io), 19 RA0/AN0/ICSPDAT (io), 20 VSS (power) "Ground supply."

## PIC16F720T-I/SS
designator U?
Flash Microcontroller, 16 MHz, 17 I/O, -40 to 85 degC, 20-pin SSOP (SS20), Tape and Reel; Manufacturer: Microchip; PartNumber: PIC16F720T-I/SS; # of A/D Channels: 12; Digital Communication: 1 -A/E/USART, 1 -SSP(SPI/I2C); I/O Pins: 17; Internal Oscillator: 16 MHz, 500 KHz; Max. CPU Speed MHz: 16; Operation Voltage Range: 1.8V - 5.5V; Packing: T/R; Program Memory KBytes: 3.5; Program Memory KWords: 2; RAM: 128; Timers: 2 - 8-bit, 1 - 16-bit, 0 - 32-bit; DatasheetVersion: Rev. D; PackageVersion: C04-072B, 12/2012; PackageReference: SSOP-SS20; PackageDescription: 20-Lead Plastic Shrink Small Outline, 5.3 x 7.2 mm Body, 0.65 mm Pitch; Supplier 1: Digi-Key; Supplier Part Number 1: PIC16F720T-I/SS-ND; Supplier 2: Mouser; Supplier Part Number 2: 579-PIC16F720T-I/SS; Memory Type: Flash; RoHS: TRUE; Mounting Technology: Surface Mount; ComponentLink1Description: Datasheet; ComponentLink1URL: http://ww1.microchip.com/downloads/en/DeviceDoc/41430D.pdf; ComponentLink2Description: Package Specification; ComponentLink2URL: http://www.microchip.com/stellent/groups/techpub_sg/documents/packagingspec/en012702.pdf; ComponentLink3Description: URL Link1; ComponentLink3URL: Product URL:http://www.microchip.com/datasheet/PIC16F720
footprint MCHP-SSOP-SS20_N (SOP, 20-Leads, Body 7.2x5.3mm, Pitch 0.65mm, IPC Medium Density)
footprint MCHP-SSOP-SS20_L (SOP, 20-Leads, Body 7.2x5.3mm, Pitch 0.65mm, IPC High Density)
footprint MCHP-SSOP-SS20_M (SOP, 20-Leads, Body 7.2x5.3mm, Pitch 0.65mm, IPC Low Density)
pins: 1 VDD (power) "Positive supply.", 2 RA5/T1CKI/CLKIN (io), 3 RA4/AN3/~{T1G}/CLKOUT (io), 4 RA3/~{MCLR}/VPP (in), 5 RC5/CCP1 (io), 6 RC4 (io) "General purpose I/O.", 7 RC3/AN7 (io), 8 RC6/AN8/~{SS} (io), 9 RC7/AN9/SDO (io), 10 RB7/TX/CK (io), 11 RB6/SCK/SCL (io), 12 RB5/AN11/RX/DT (io), 13 RB4/AN10/SDI/SDA (io), 14 RC2/AN6 (io), 15 RC1/AN5 (io), 16 RC0/AN4 (io), 17 RA2/AN2/T0CKI/INT (io), 18 RA1/AN1/ICSPCLK (io), 19 RA0/AN0/ICSPDAT (io), 20 VSS (power) "Ground supply."

## PIC16F721-E/ML
designator U?
Flash Microcontroller, 16 MHz, 17 I/O, -40 to 125 degC, 20-pin QFN (ML20), Tube; Manufacturer: Microchip; PartNumber: PIC16F721-E/ML; # of A/D Channels: 12; Digital Communication: 1 -A/E/USART, 1 -SSP(SPI/I2C); I/O Pins: 17; Internal Oscillator: 16 MHz, 500 kHz; Max. CPU Speed MHz: 16; Operation Voltage Range: 1.8V - 5.5V; Program Memory KBytes: 7; Program Memory KWords: 4; RAM: 256; Timers: 2 - 8-bit, 1 - 16-bit, 0 - 32-bit; DatasheetVersion: Rev. D; PackageVersion: C04-126B, 12/2012; PackageReference: QFN-ML20; PackageDescription: 20-Lead Plastic Quad Flat, No Lead Package, 4 x 4 mm Body, 0.5 mm Pitch; Supplier 1: Digi-Key; Supplier Part Number 1: PIC16F721-E/ML-ND; Supplier 2: Mouser; Supplier Part Number 2: 579-PIC16F721-E/ML; Memory Type: Flash; Packing: TUBE; RoHS: TRUE; Mounting Technology: Surface Mount; ComponentLink1Description: Datasheet; ComponentLink1URL: http://ww1.microchip.com/downloads/en/DeviceDoc/41430D.pdf; ComponentLink2Description: Package Specification; ComponentLink2URL: http://www.microchip.com/stellent/groups/techpub_sg/documents/packagingspec/en012702.pdf; ComponentLink3Description: URL Link1; ComponentLink3URL: Product URL:http://www.microchip.com/datasheet/PIC16F721
footprint MCHP-QFN-ML20_N (QFN, 20-Leads, Body 4x4mm, Pitch 0.5mm, Thermal Pad 2.7x2.7mm, IPC Medium Density)
footprint MCHP-QFN-ML20_L (QFN, 20-Leads, Body 4x4mm, Pitch 0.5mm, Thermal Pad 2.7x2.7mm, IPC High Density)
footprint MCHP-QFN-ML20_M (QFN, 20-Leads, Body 4x4mm, Pitch 0.5mm, Thermal Pad 2.7x2.7mm, IPC Low Density)
pins: 1 RA3/~{MCLR}/VPP (in), 2 RC5/CCP1 (io), 3 RC4 (io) "General purpose I/O.", 4 RC3/AN7 (io), 5 RC6/AN8/~{SS} (io), 6 RC7/AN9/SDO (io), 7 RB7/TX/CK (io), 8 RB6/SCK/SCL (io), 9 RB5/AN11/RX/DT (io), 10 RB4/AN10/SDI/SDA (io), 11 RC2/AN6 (io), 12 RC1/AN5 (io), 13 RC0/AN4 (io), 14 RA2/AN2/T0CKI/INT (io), 15 RA1/AN1/ICSPCLK (io), 16 RA0/AN0/ICSPDAT (io), 17 VSS (power) "Ground supply", 18 VDD (power) "Positive supply", 19 RA5/T1CKI/CLKIN (io), 20 RA4/AN3/~{T1G}/CLKOUT (io), 21 EP

## PIC16F721-E/P
designator U?
Flash Microcontroller, 16 MHz, 17 I/O, -40 to 125 degC, 20-pin PDIP (P20), Tube; Manufacturer: Microchip; PartNumber: PIC16F721-E/P; # of A/D Channels: 12; Digital Communication: 1 -A/E/USART, 1 -SSP(SPI/I2C); I/O Pins: 17; Internal Oscillator: 16 MHz, 500 kHz; Max. CPU Speed MHz: 16; Operation Voltage Range: 1.8V - 5.5V; Program Memory KBytes: 7; Program Memory KWords: 4; RAM: 256; Timers: 2 - 8-bit, 1 - 16-bit, 0 - 32-bit; DatasheetVersion: Rev. D; PackageVersion: C04-019B, 12/2012; PackageReference: PDIP-P20; PackageDescription: 20-Lead Plastic Dual In-Line, Row Spacing 7.62 mm, 25.91 x 6.6 mm Body, 2.54 mm Pitch; Supplier 1: Digi-Key; Supplier Part Number 1: PIC16F721-E/P-ND; Supplier 2: Mouser; Supplier Part Number 2: 579-PIC16F721-E/P; Memory Type: Flash; Packing: TUBE; RoHS: TRUE; Mounting Technology: Through Hole; ComponentLink1Description: Datasheet; ComponentLink1URL: http://ww1.microchip.com/downloads/en/DeviceDoc/41430D.pdf; ComponentLink2Description: Package Specification; ComponentLink2URL: http://www.microchip.com/stellent/groups/techpub_sg/documents/packagingspec/en012702.pdf; ComponentLink3Description: URL Link1; ComponentLink3URL: Product URL:http://www.microchip.com/datasheet/PIC16F721
footprint MCHP-PDIP-P20 (DIP, 20-Leads, Body 25.91x6.6mm, Pitch 2.54mm)
pins: 1 VDD (power) "Positive supply.", 2 RA5/T1CKI/CLKIN (io), 3 RA4/AN3/~{T1G}/CLKOUT (io), 4 RA3/~{MCLR}/VPP (in), 5 RC5/CCP1 (io), 6 RC4 (io) "General purpose I/O.", 7 RC3/AN7 (io), 8 RC6/AN8/~{SS} (io), 9 RC7/AN9/SDO (io), 10 RB7/TX/CK (io), 11 RB6/SCK/SCL (io), 12 RB5/AN11/RX/DT (io), 13 RB4/AN10/SDI/SDA (io), 14 RC2/AN6 (io), 15 RC1/AN5 (io), 16 RC0/AN4 (io), 17 RA2/AN2/T0CKI/INT (io), 18 RA1/AN1/ICSPCLK (io), 19 RA0/AN0/ICSPDAT (io), 20 VSS (power) "Ground supply."

## PIC16F721-E/SO
designator U?
Flash Microcontroller, 16 MHz, 17 I/O, -40 to 125 degC, 20-pin SOIC (SO20), Tube; Manufacturer: Microchip; PartNumber: PIC16F721-E/SO; # of A/D Channels: 12; Digital Communication: 1 -A/E/USART, 1 -SSP(SPI/I2C); I/O Pins: 17; Internal Oscillator: 16 MHz, 500 kHz; Max. CPU Speed MHz: 16; Operation Voltage Range: 1.8V - 5.5V; Program Memory KBytes: 7; Program Memory KWords: 4; RAM: 256; Timers: 2 - 8-bit, 1 - 16-bit; DatasheetVersion: Rev. D; PackageVersion: C04-094C, 12/2012; PackageReference: SOIC-SO20; PackageDescription: 20-Lead Plastic Small Outline, 7.5 x 12.8 mm Body, 1.27 mm Pitch; Supplier 1: Digi-Key; Supplier Part Number 1: PIC16F721-E/SO-ND; Supplier 2: Mouser; Supplier Part Number 2: 579-PIC16F721-E/SO; Memory Type: Flash; Packing: TUBE; RoHS: TRUE; Mounting Technology: Surface Mount; ComponentLink1Description: Datasheet; ComponentLink1URL: http://ww1.microchip.com/downloads/en/DeviceDoc/41430D.pdf; ComponentLink2Description: Package Specification; ComponentLink2URL: http://www.microchip.com/stellent/groups/techpub_sg/documents/packagingspec/en012702.pdf; ComponentLink3Description: URL Link1; ComponentLink3URL: Product URL:http://www.microchip.com/datasheet/PIC16F721
footprint MCHP-SOIC-SO20_N (SOIC, 20-Leads, Body 12.8x7.5mm, Pitch 1.27mm, IPC Medium Density)
footprint MCHP-SOIC-SO20_L (SOIC, 20-Leads, Body 12.8x7.5mm, Pitch 1.27mm, IPC High Density)
footprint MCHP-SOIC-SO20_M (SOIC, 20-Leads, Body 12.8x7.5mm, Pitch 1.27mm, IPC Low Density)
pins: 1 VDD (power) "Positive supply.", 2 RA5/T1CKI/CLKIN (io), 3 RA4/AN3/~{T1G}/CLKOUT (io), 4 RA3/~{MCLR}/VPP (in), 5 RC5/CCP1 (io), 6 RC4 (io) "General purpose I/O.", 7 RC3/AN7 (io), 8 RC6/AN8/~{SS} (io), 9 RC7/AN9/SDO (io), 10 RB7/TX/CK (io), 11 RB6/SCK/SCL (io), 12 RB5/AN11/RX/DT (io), 13 RB4/AN10/SDI/SDA (io), 14 RC2/AN6 (io), 15 RC1/AN5 (io), 16 RC0/AN4 (io), 17 RA2/AN2/T0CKI/INT (io), 18 RA1/AN1/ICSPCLK (io), 19 RA0/AN0/ICSPDAT (io), 20 VSS (power) "Ground supply."

## PIC16F721-E/SS
designator U?
Flash Microcontroller, 16 MHz, 17 I/O, -40 to 125 degC, 20-pin SSOP (SS20), Tube; Manufacturer: Microchip; PartNumber: PIC16F721-E/SS; # of A/D Channels: 12; Digital Communication: 1 -A/E/USART, 1 -SSP(SPI/I2C); I/O Pins: 17; Internal Oscillator: 16 MHz, 500 kHz; Max. CPU Speed MHz: 16; Operation Voltage Range: 1.8V - 5.5V; Program Memory KBytes: 7; Program Memory KWords: 4; RAM: 256; Timers: 2 - 8-bit, 1 - 16-bit; DatasheetVersion: Rev. D; PackageVersion: C04-072B, 12/2012; PackageReference: SSOP-SS20; PackageDescription: 20-Lead Plastic Shrink Small Outline, 5.3 x 7.2 mm Body, 0.65 mm Pitch; Supplier 1: Digi-Key; Supplier Part Number 1: PIC16F721-E/SS-ND; Supplier 2: Mouser; Supplier Part Number 2: 579-PIC16F721-E/SS; Memory Type: Flash; Packing: TUBE; RoHS: TRUE; Mounting Technology: Surface Mount; ComponentLink1Description: Datasheet; ComponentLink1URL: http://ww1.microchip.com/downloads/en/DeviceDoc/41430D.pdf; ComponentLink2Description: Package Specification; ComponentLink2URL: http://www.microchip.com/stellent/groups/techpub_sg/documents/packagingspec/en012702.pdf; ComponentLink3Description: URL Link1; ComponentLink3URL: Product URL:http://www.microchip.com/datasheet/PIC16F721
footprint MCHP-SSOP-SS20_N (SOP, 20-Leads, Body 7.2x5.3mm, Pitch 0.65mm, IPC Medium Density)
footprint MCHP-SSOP-SS20_L (SOP, 20-Leads, Body 7.2x5.3mm, Pitch 0.65mm, IPC High Density)
footprint MCHP-SSOP-SS20_M (SOP, 20-Leads, Body 7.2x5.3mm, Pitch 0.65mm, IPC Low Density)
pins: 1 VDD (power) "Positive supply.", 2 RA5/T1CKI/CLKIN (io), 3 RA4/AN3/~{T1G}/CLKOUT (io), 4 RA3/~{MCLR}/VPP (in), 5 RC5/CCP1 (io), 6 RC4 (io) "General purpose I/O.", 7 RC3/AN7 (io), 8 RC6/AN8/~{SS} (io), 9 RC7/AN9/SDO (io), 10 RB7/TX/CK (io), 11 RB6/SCK/SCL (io), 12 RB5/AN11/RX/DT (io), 13 RB4/AN10/SDI/SDA (io), 14 RC2/AN6 (io), 15 RC1/AN5 (io), 16 RC0/AN4 (io), 17 RA2/AN2/T0CKI/INT (io), 18 RA1/AN1/ICSPCLK (io), 19 RA0/AN0/ICSPDAT (io), 20 VSS (power) "Ground supply."

## PIC16F721-I/ML
designator U?
Flash Microcontroller, 16 MHz, 17 I/O, -40 to 85 degC, 20-pin QFN (ML20), Tube; Manufacturer: Microchip; PartNumber: PIC16F721-I/ML; # of A/D Channels: 12; Digital Communication: 1 -A/E/USART, 1 -SSP(SPI/I2C); I/O Pins: 17; Internal Oscillator: 16 MHz, 500 kHz; Max. CPU Speed MHz: 16; Operation Voltage Range: 1.8V - 5.5V; Program Memory KBytes: 7; Program Memory KWords: 4; RAM: 256; Timers: 2 - 8-bit, 1 - 16-bit; DatasheetVersion: Rev. D; PackageVersion: C04-126B, 12/2012; PackageReference: QFN-ML20; PackageDescription: 20-Lead Plastic Quad Flat, No Lead Package, 4 x 4 mm Body, 0.5 mm Pitch; Supplier 1: Digi-Key; Supplier Part Number 1: PIC16F721-I/ML-ND; Supplier 2: Farnell; Supplier Part Number 2: 1814915; Supplier 3: Newark; Supplier Part Number 3: 73R8410; Supplier 4: Mouser; Supplier Part Number 4: 579-PIC16F721-I/ML; Memory Type: Flash; Packing: TUBE; RoHS: TRUE; Mounting Technology: Surface Mount; ComponentLink1Description: Datasheet; ComponentLink1URL: http://ww1.microchip.com/downloads/en/DeviceDoc/41430D.pdf; ComponentLink2Description: Package Specification; ComponentLink2URL: http://www.microchip.com/stellent/groups/techpub_sg/documents/packagingspec/en012702.pdf; ComponentLink3Description: URL Link1; ComponentLink3URL: Product URL:http://www.microchip.com/datasheet/PIC16F721
footprint MCHP-QFN-ML20_N (QFN, 20-Leads, Body 4x4mm, Pitch 0.5mm, Thermal Pad 2.7x2.7mm, IPC Medium Density)
footprint MCHP-QFN-ML20_L (QFN, 20-Leads, Body 4x4mm, Pitch 0.5mm, Thermal Pad 2.7x2.7mm, IPC High Density)
footprint MCHP-QFN-ML20_M (QFN, 20-Leads, Body 4x4mm, Pitch 0.5mm, Thermal Pad 2.7x2.7mm, IPC Low Density)
pins: 1 RA3/~{MCLR}/VPP (in), 2 RC5/CCP1 (io), 3 RC4 (io) "General purpose I/O.", 4 RC3/AN7 (io), 5 RC6/AN8/~{SS} (io), 6 RC7/AN9/SDO (io), 7 RB7/TX/CK (io), 8 RB6/SCK/SCL (io), 9 RB5/AN11/RX/DT (io), 10 RB4/AN10/SDI/SDA (io), 11 RC2/AN6 (io), 12 RC1/AN5 (io), 13 RC0/AN4 (io), 14 RA2/AN2/T0CKI/INT (io), 15 RA1/AN1/ICSPCLK (io), 16 RA0/AN0/ICSPDAT (io), 17 VSS (power) "Ground supply", 18 VDD (power) "Positive supply", 19 RA5/T1CKI/CLKIN (io), 20 RA4/AN3/~{T1G}/CLKOUT (io), 21 EP

## PIC16F721-I/P
designator U?
Flash Microcontroller, 16 MHz, 17 I/O, -40 to 85 degC, 20-pin PDIP (P20), Tube; Manufacturer: Microchip; PartNumber: PIC16F721-I/P; # of A/D Channels: 12; Digital Communication: 1 -A/E/USART, 1 -SSP(SPI/I2C); I/O Pins: 17; Internal Oscillator: 16 MHz, 500 kHz; Max. CPU Speed MHz: 16; Operation Voltage Range: 1.8V - 5.5V; Program Memory KBytes: 7; Program Memory KWords: 4; RAM: 256; Timers: 2 - 8-bit, 1 - 16-bit; DatasheetVersion: Rev. D; PackageVersion: C04-019B, 12/2012; PackageReference: PDIP-P20; PackageDescription: 20-Lead Plastic Dual In-Line, Row Spacing 7.62 mm, 25.91 x 6.6 mm Body, 2.54 mm Pitch; Supplier 1: Digi-Key; Supplier Part Number 1: PIC16F721-I/P-ND; Supplier 2: Farnell; Supplier Part Number 2: 1814917; Supplier 3: Newark; Supplier Part Number 3: 73R8411; Supplier 4: Mouser; Supplier Part Number 4: 579-PIC16F721-I/P; Memory Type: Flash; Packing: TUBE; RoHS: TRUE; Mounting Technology: Through Hole; ComponentLink1Description: Datasheet; ComponentLink1URL: http://ww1.microchip.com/downloads/en/DeviceDoc/41430D.pdf; ComponentLink2Description: Package Specification; ComponentLink2URL: http://www.microchip.com/stellent/groups/techpub_sg/documents/packagingspec/en012702.pdf; ComponentLink3Description: URL Link1; ComponentLink3URL: Product URL:http://www.microchip.com/datasheet/PIC16F721
footprint MCHP-PDIP-P20 (DIP, 20-Leads, Body 25.91x6.6mm, Pitch 2.54mm)
pins: 1 VDD (power) "Positive supply.", 2 RA5/T1CKI/CLKIN (io), 3 RA4/AN3/~{T1G}/CLKOUT (io), 4 RA3/~{MCLR}/VPP (in), 5 RC5/CCP1 (io), 6 RC4 (io) "General purpose I/O.", 7 RC3/AN7 (io), 8 RC6/AN8/~{SS} (io), 9 RC7/AN9/SDO (io), 10 RB7/TX/CK (io), 11 RB6/SCK/SCL (io), 12 RB5/AN11/RX/DT (io), 13 RB4/AN10/SDI/SDA (io), 14 RC2/AN6 (io), 15 RC1/AN5 (io), 16 RC0/AN4 (io), 17 RA2/AN2/T0CKI/INT (io), 18 RA1/AN1/ICSPCLK (io), 19 RA0/AN0/ICSPDAT (io), 20 VSS (power) "Ground supply."

## PIC16F721-I/SO
designator U?
Flash Microcontroller, 16 MHz, 17 I/O, -40 to 85 degC, 20-pin SOIC (SO20), Tube; Manufacturer: Microchip; PartNumber: PIC16F721-I/SO; # of A/D Channels: 12; Digital Communication: 1 -A/E/USART, 1 -SSP(SPI/I2C); I/O Pins: 17; Internal Oscillator: 16 MHz, 500 kHz; Max. CPU Speed MHz: 16; Operation Voltage Range: 1.8V - 5.5V; Program Memory KBytes: 7; Program Memory KWords: 4; RAM: 256; Timers: 2 - 8-bit, 1 - 16-bit; DatasheetVersion: Rev. D; PackageVersion: C04-094C, 12/2012; PackageReference: SOIC-SO20; PackageDescription: 20-Lead Plastic Small Outline, 7.5 x 12.8 mm Body, 1.27 mm Pitch; Supplier 1: Digi-Key; Supplier Part Number 1: PIC16F721-I/SO-ND; Supplier 2: Farnell; Supplier Part Number 2: 1814918; Supplier 3: Newark; Supplier Part Number 3: 75R2761; Supplier 4: Mouser; Supplier Part Number 4: 579-PIC16F721-I/SO; Memory Type: Flash; Packing: TUBE; RoHS: TRUE; Mounting Technology: Surface Mount; ComponentLink1Description: Datasheet; ComponentLink1URL: http://ww1.microchip.com/downloads/en/DeviceDoc/41430D.pdf; ComponentLink2Description: Package Specification; ComponentLink2URL: http://www.microchip.com/stellent/groups/techpub_sg/documents/packagingspec/en012702.pdf; ComponentLink3Description: URL Link1; ComponentLink3URL: Product URL:http://www.microchip.com/datasheet/PIC16F721
footprint MCHP-SOIC-SO20_N (SOIC, 20-Leads, Body 12.8x7.5mm, Pitch 1.27mm, IPC Medium Density)
footprint MCHP-SOIC-SO20_L (SOIC, 20-Leads, Body 12.8x7.5mm, Pitch 1.27mm, IPC High Density)
footprint MCHP-SOIC-SO20_M (SOIC, 20-Leads, Body 12.8x7.5mm, Pitch 1.27mm, IPC Low Density)
pins: 1 VDD (power) "Positive supply.", 2 RA5/T1CKI/CLKIN (io), 3 RA4/AN3/~{T1G}/CLKOUT (io), 4 RA3/~{MCLR}/VPP (in), 5 RC5/CCP1 (io), 6 RC4 (io) "General purpose I/O.", 7 RC3/AN7 (io), 8 RC6/AN8/~{SS} (io), 9 RC7/AN9/SDO (io), 10 RB7/TX/CK (io), 11 RB6/SCK/SCL (io), 12 RB5/AN11/RX/DT (io), 13 RB4/AN10/SDI/SDA (io), 14 RC2/AN6 (io), 15 RC1/AN5 (io), 16 RC0/AN4 (io), 17 RA2/AN2/T0CKI/INT (io), 18 RA1/AN1/ICSPCLK (io), 19 RA0/AN0/ICSPDAT (io), 20 VSS (power) "Ground supply."